# EAGLE library part DG418-J (library joakim)
Single switch, normally open. SPST
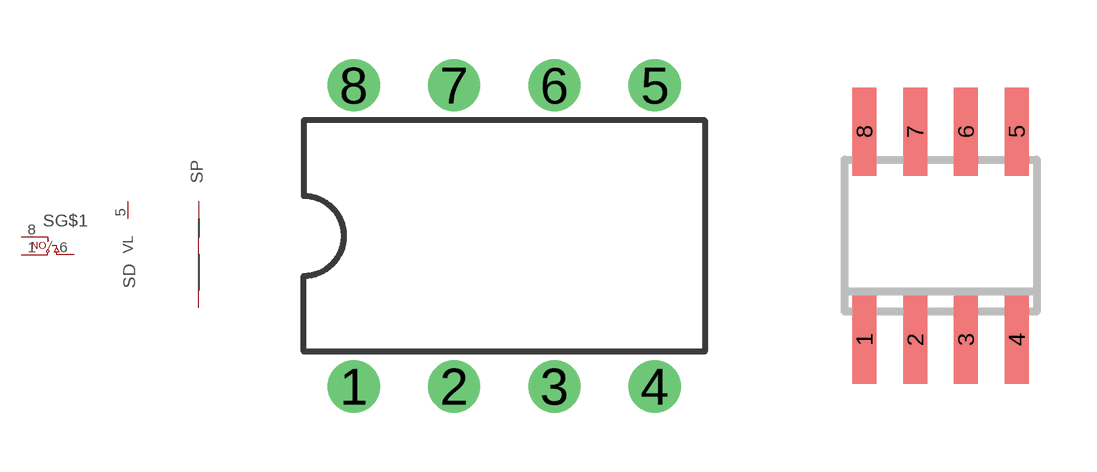
[diagram p65: symbol with the pads of DIL08J; footprints DIL08J, SO08J]

Designator prefix S; gates D=VL-PWR P=XM8-PWR G$1=DG-CELL-NO

## DG418-JP  [DIL08J]
1  G$1:S
3  P:AGND  pwr
4  P:+15V  pwr
5  D:VL
6  G$1:C
7  P:-15V  pwr
8  G$1:D

## DG418-JS  [SO08J]
Pads as for DIL08J

## Footprint DIL08J (pad centres in mm)
Dual In Line Package
drill 0.813 pad 1.27: 1 -3.81,-3.81; 2 -1.27,-3.81; 3 1.27,-3.81; 4 3.81,-3.81; 5 3.81,3.81; 6 1.27,3.81; 7 -1.27,3.81; 8 -3.81,3.81

## Footprint SO08J (pad centres in mm)
Small Outline Package 8 NS Package M08A
smd 0.6 x 2.2: 1 -1.905,-2.6; 2 -0.635,-2.6; 3 0.635,-2.6; 4 1.905,-2.6; 5 1.905,2.6; 6 0.635,2.6; 7 -0.635,2.6; 8 -1.905,2.6